# Altium footprint library Termal controller.PcbLib: 39 footprints (part 1 of 3)
Each footprint in its own frame and in the unit in brackets; x right, y up, seen from the top. Pads: shape width x height; smd on the part's side, far side on the other; paste and mask are expansions set on the pad; w line width, h text height; cw(c..) or ccw(c..) is an arc to the next point about the centre after c.
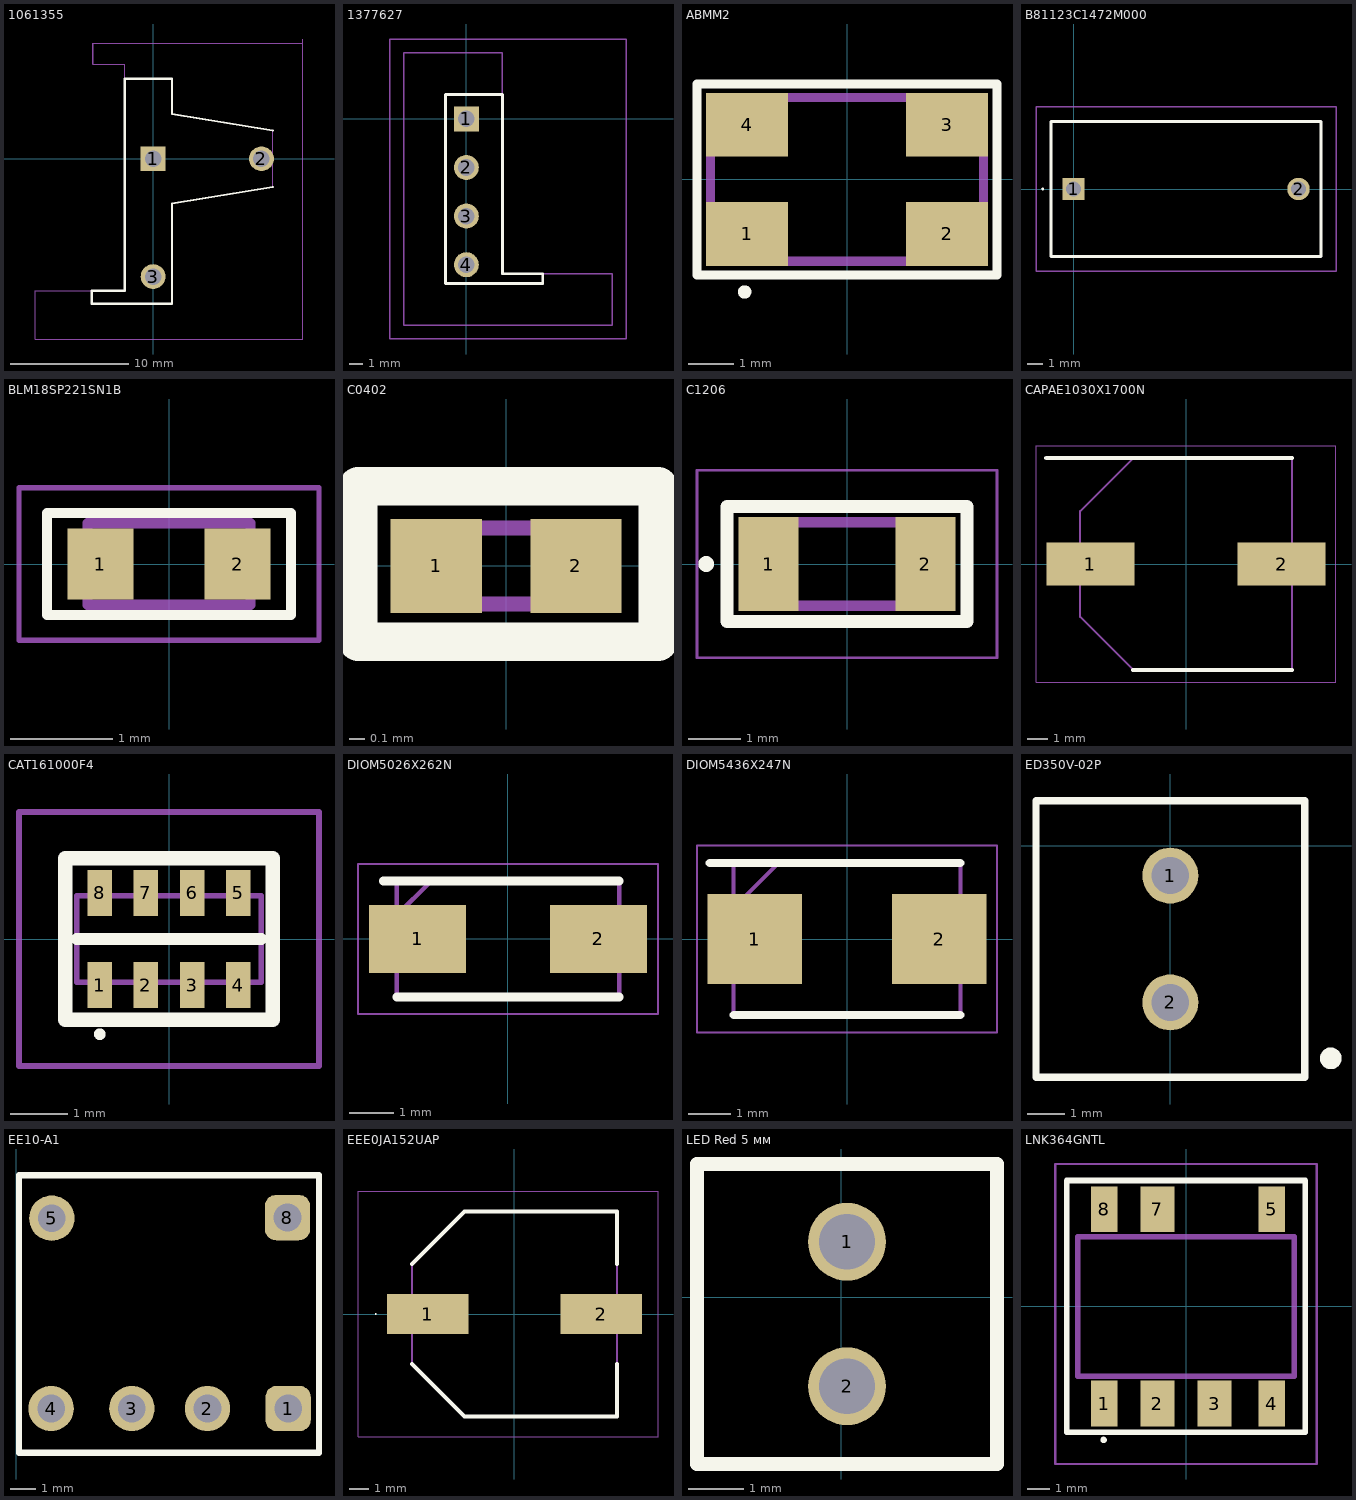
[diagram p0: the footprints below, top view; thin cyan lines are the x and y axes]

## 1061355 [mm]
pads (3):
  rect 2.1x2.1 hole 1.4: 1(0,0)
  round 2.1 hole 1.4: 2(9.2,0) 3(0,-10)
Top Overlay:
  lines w0.2: 10.16,-2.4 1.6,-3.8 1.6,-12.3 -5.2,-12.3 -5.2,-11.2 -2.4,-11.2 -2.4,6.8 1.6,6.8 1.6,3.8 10.16,2.4
Mechanical 13:
  lines w0.1: -5.2,-12.3 -5.2,-11.2 -2.4,-11.2 -2.4,6.8 1.6,6.8 1.6,3.8 10.16,2.4 10.16,-2.4 1.6,-3.8 1.6,-12.3 -5.2,-12.3
Mechanical 15:
  lines w0.1: 12.7,10.16 12.7,-15.3 ; -10,-15.3 12.7,-15.3 ; -10,-15.3 -10,-11.2 ; -10,-15.3 12.7,-15.3 ; -10,-15.3 -10,-11.2 ; -10,-11.2 -2.4,-11.2 ; -10,-11.2 -2.4,-11.2 ; -2.4,-11.2 -2.4,8 ; -2.4,-11.2 -2.4,8 ; -2.4,8 -5.08,8 -5.08,9.8 12.7,9.8 ; -2.4,8 -5.1,8 -5.1,9.8 12.7,9.8 ; 12.7,-15.3 12.7,9.8
3D body "1061355.stp": height 16.59, standoff -4.21, extent -22.274,-18.03 11.965,15.182

## 1377627 [mm]
pads (4):
  rect 1.8x1.8 hole 1.2: 1(0,0)
  round 1.8 hole 1.2: 2(0,-3.5) 3(0,-7) 4(0,-10.5)
Top Overlay:
  lines w0.2: 2.54,1.75 -1.5,1.75 -1.5,-11.85 5.5,-11.85 5.5,-11.15 2.6,-11.15 2.6,1.75
Mechanical 13:
  lines w0.1: -1.5,-11.85 5.5,-11.85 5.5,-11.15 2.6,-11.15 2.6,1.75 -1.5,1.75 -1.5,-11.85
Mechanical 15:
  lines w0.1: -5.5,-15.85 -5.5,5.75 11.5,5.75 11.5,-15.85 -5.5,-15.85 ; -4.5,-14.85 10.5,-14.85 10.5,-11.15 2.6,-11.15 2.6,4.75 -4.5,4.75 -4.5,-14.85
3D body "1377627.stp": height 11.55, standoff -4.49, extent -8.147,-15.072 14.05,5.95

## ABMM2 [mm]
pads (4):
  rect 1.8x1.4 smd: 1(-2.2,-1.2) 2(2.2,-1.2) 3(2.2,1.2) 4(-2.2,1.2)
Top Overlay:
  circle w0.2: c-2.252,-2.475 r0.047
  lines w0.2: -3.3,-2.1 -3.3,2.1 3.3,2.1 3.3,-2.1 -3.3,-2.1
Mechanical 13:
  lines w0.2: -3,-1.8 3,-1.8 3,1.8 -3,1.8 -3,-1.8
3D body "ABMM2-8.000MHZ-E2-T.stp": height 1.2, standoff 0, extent -3,-1.8 3,1.8

## B81123C1472M000 [mm]
pads (2):
  rect 1.5x1.5 hole 1: 1(0,0)
  round 1.5 hole 1: 2(15,0)
Top Overlay:
  lines w0.1: -2.1,0 cw(c-2.05,0) -2,0 cw(c-2.05,0) -2.1,0
  lines w0.2: -1.5,-4.5 16.5,-4.5 16.5,4.5 -1.5,4.5 -1.5,-4.5
Mechanical 13:
  lines w0.1: -1.5,-4.5 16.5,-4.5 16.5,4.5 -1.5,4.5 -1.5,-4.5
Mechanical 15:
  lines w0.1: -2.5,-5.5 17.5,-5.5 17.5,5.5 -2.5,5.5 -2.5,-5.5
3D body "B81123C1472M000.stp": height 17.4, standoff -6.1, extent -1.5,-4.5 16.5,4.5

## BLM18SP221SN1B [mm]
pads (2):
  rect 0.65x0.7 smd: 1(-0.675,0) 2(0.675,0)
Top Overlay:
  lines w0.1: -1.2,-0.5 1.2,-0.5 1.2,0.5 -1.2,0.5 -1.2,-0.5
Mechanical 13:
  lines w0.1: -0.8,-0.4 -0.8,0.4 0.8,0.4 0.8,-0.4 -0.8,-0.4
Mechanical 15:
  lines w0.05: -1.475,-0.75 -1.475,0.75 1.475,0.75 1.475,-0.75 -1.475,-0.75
3D body "BLM18AG102SN1D.stp": height 0.8, standoff 0, extent -0.8,-0.4 0.8,0.4

## C0402 [mm]
pads (2):
  rect 0.6x0.62 smd: 1(-0.46,0) 2(0.46,0)
Top Overlay:
  lines w0.254: -0.975,-0.5 1,-0.5 1,0.525 -0.975,0.525 -0.975,-0.5
Mechanical 13:
  lines w0.1: -0.5,-0.25 0.5,-0.25 0.5,0.25 -0.5,0.25 -0.5,-0.25
Mechanical 15:
  lines w0.05: -0.91,-0.46 0.91,-0.46 0.91,0.46 -0.91,0.46 -0.91,-0.46
3D body "CC0402KRX7R7BB222.stp": height 0.55, standoff 0, extent -0.52,-0.28 0.53,0.27

## C1206 [mm]
pads (2):
  rect 1.15x1.8 smd: 1(-1.5,0) 2(1.5,0)
Top Overlay:
  circle w0.2: c-2.7,0 r0.05
  lines w0.254: -2.3,-1.1 2.3,-1.1 2.3,1.1 -2.3,1.1 -2.3,-1.1
Mechanical 13:
  lines w0.2: -1.6,-0.8 1.6,-0.8 1.6,0.8 -1.6,0.8 -1.6,-0.8
Mechanical 15:
  lines w0.05: -2.875,-1.8 2.875,-1.8 2.875,1.8 -2.875,1.8 -2.875,-1.8
3D body "C1206C104K5RALTU.stp": height 0.88, standoff 0, extent -1.7,-0.9 1.7,0.9

## CAPAE1030X1700N [mm]
pads (2):
  rect 4.3x2.1 smd: 1(-4.65,0) 2(4.65,0)
Top Overlay:
  lines w0.2: -6.8,5.15 5.15,5.15 ; -2.575,-5.15 5.15,-5.15
Mechanical 13:
  lines w0.1: -5.15,-2.575 -2.575,-5.15 5.15,-5.15 5.15,5.15 -2.575,5.15 -5.15,2.575 -5.15,-2.575
Mechanical 15:
  lines w0.05: -7.3,-5.75 -7.3,5.75 7.3,5.75 7.3,-5.75 -7.3,-5.75
3D body "EEV-EB2G4R7Q.stp": height 17, standoff 0, extent -6,-5.25 6,5.25

## CAT161000F4 [mm]
pads (8):
  rect 0.425x0.8 smd: 1(-1.2,-0.8) 2(-0.4,-0.8) 3(0.4,-0.8) 4(1.2,-0.8) 5(1.2,0.8) 6(0.4,0.8) 7(-0.4,0.8) 8(-1.2,0.8)
Top Overlay:
  lines w0.1: -1.2,-1.7 ccw(c-1.2,-1.65) -1.2,-1.6 ccw(c-1.2,-1.65) -1.2,-1.7
  lines w0.2: -1.6,0 1.6,0
  lines w0.254: -1.8,-1.4 1.8,-1.4 1.8,1.4 -1.8,1.4 -1.8,-1.4
Mechanical 13:
  lines w0.1: -1.6,-0.75 -1.6,0.75 1.6,0.75 1.6,-0.75 -1.6,-0.75
Mechanical 15:
  lines w0.1: -2.6,-2.2 -2.6,2.2 2.6,2.2 2.6,-2.2 -2.6,-2.2
3D body "CAT16-2702F4LF.stp": height 0.5, standoff 0, extent -1.6,-0.65 1.6,0.75

## DIOM5026X262N [mm]
pads (2):
  rect 2.2x1.55 smd: 1(-2.05,0) 2(2.05,0)
Top Overlay:
  lines w0.2: -2.825,1.312 2.52,1.312 ; -2.52,-1.312 2.52,-1.312
Mechanical 13:
  lines w0.1: -2.52,0.538 -1.745,1.312 ; -2.52,-1.312 2.52,-1.312 2.52,1.312 -2.52,1.312 -2.52,-1.312
Mechanical 15:
  lines w0.05: -3.4,-1.7 3.4,-1.7 3.4,1.7 -3.4,1.7 -3.4,-1.7
3D body "RS1M.stp": height 2.62, standoff 0, extent -2.52,-1.312 2.52,1.312

## DIOM5436X247N [mm]
pads (2):
  rect 2.25x2.15 smd: 1(-2.2,0) 2(2.2,0)
Top Overlay:
  lines w0.2: -3.275,1.812 2.702,1.812 ; -2.702,-1.812 2.702,-1.812
Mechanical 13:
  lines w0.1: -2.702,0.738 -1.628,1.812 ; -2.702,-1.812 -2.702,1.812 2.702,1.812 2.702,-1.812 -2.702,-1.812
Mechanical 15:
  lines w0.05: -3.575,-2.225 -3.575,2.225 3.575,2.225 3.575,-2.225 -3.575,-2.225
3D body "NRVBSS26NT3G.stp": height 2.47, standoff 0, extent -2.702,-1.813 2.702,1.813

## ED350V-02P [mm]
pads (2):
  round 1.5 hole 1: 1(0,-0.8) 2(0,-4.2)
Top Overlay:
  circle w0.3: c4.3,-5.7 r0.141
  lines w0.2: -3.6,-6.2 3.6,-6.2 3.6,1.2 -3.6,1.2 -3.6,-6.2
3D body "User Library-dinkle-ED350V-02P.STEP": height 2.5, standoff -9.2, extent -3.4,-6 3.4,1

## EE10-A1 [mm]
pads (6):
  rrect50% 1.8x1.8 hole 1.1: 1(10.775,2.95) 8(10.75,10.525)
  round 1.8 hole 1.1: 2(7.575,2.95) 3(4.575,2.95) 4(1.375,2.95) 5(1.4,10.5)
Top Overlay:
  lines w0.254: 0.1,1.2 12,1.2 12,12.2 0.1,12.2 0.1,1.2
3D body "EE10 Voltage Transformer v4.step": height 11.8, standoff -3.5, extent 0.325,1.425 11.825,12.025

## EEE0JA152UAP [mm]
pads (2):
  rect 4.1x2 smd: 1(-4.35,0) 2(4.35,0)
Top Overlay:
  lines w0.05: -6.975,0 ccw(c-6.95,0) -6.925,0 ccw(c-6.95,0) -6.975,0
  lines w0.2: -5.15,-2.5 -2.5,-5.15 5.15,-5.15 5.15,-2.5 ; -5.15,2.5 -2.5,5.15 5.15,5.15 5.15,2.5
Mechanical 13:
  lines w0.1: -5.15,2.5 -2.5,5.15 ; -5.15,2.5 -5.15,-2.5 -2.5,-5.15 5.15,-5.15 5.15,5.15 -2.5,5.15 ; -5.15,2.5 -2.5,5.15
Mechanical 15:
  lines w0.05: -7.85,-6.15 7.2,-6.15 7.2,6.15 -7.85,6.15 -7.85,-6.15
3D body "EEE-FT1C102AP.stp": height 10.2, standoff 0, extent -5.81,-5.15 5.89,5.15

## LED Red 5 мм [mm]
pads (2):
  round 1.4 hole 1: 1(0.1,1) 2(0.1,-1.6)
Top Overlay:
  lines w0.254: -2.6,-3 2.8,-3 2.8,2.4 -2.6,2.4 -2.6,-3
3D body "CircuitWorks-5MM LED RED.step": height 13.6, standoff 0, extent -2.45,-2.85 2.65,2.25

## LNK364GNTL [mil]
pads (7):
  rect 45.98x80 smd: 1(-142.99,-170) 4(150,-170) 5(150,170) 8(-142.99,170)
  rect 60x80 smd: 2(-50,-170) 3(50,-170) 7(-50,170)
Top Overlay:
  lines w5.63: -147.05,-233.7 cw(c-144.21,-233.7) -141.38,-233.7 cw(c-144.21,-233.7) -147.05,-233.7
  lines w10: -208.66,-220.47 208.66,-220.47 208.66,220.47 -208.66,220.47 -208.66,-220.47
Mechanical 13:
  lines w10: -189.49,-122.05 -189.49,122.05 189.49,122.05 189.49,-122.05 -189.49,-122.05
Mechanical 15:
  lines w3.94: -228.86,-275.91 -228.86,249.37 228.86,249.37 228.86,-275.91 -228.86,-275.91
3D body "LNK364GN-TL.stp": height 156.69, standoff 0, extent -188.48,-203.44 188.48,176.67